# EAGLE library part B59(57-02)F4-03-1212-C12 (library Domino)
Dual Port RJ45 Modular Jack with Integrated Magnetics, 4 LEDs, 4 Shield Tabs
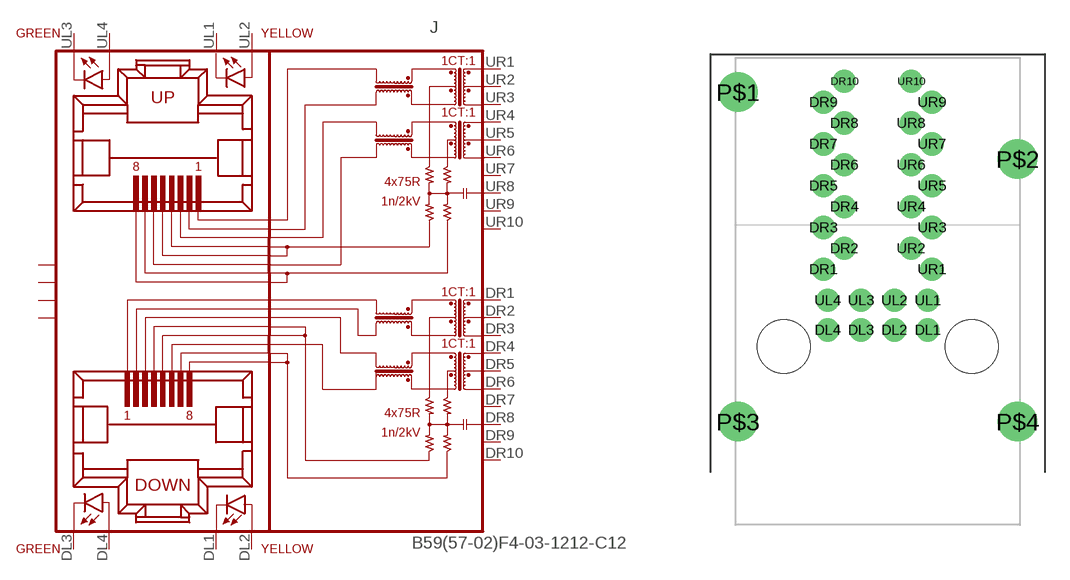
[diagram p32: symbol with the pads of B59(57-02)F4-03-1212-C12; footprint B59(57-02)F4-03-1212-C12]

Designator prefix J

## B59(57-02)F4-03-1212-C12  [B59(57-02)F4-03-1212-C12]
DL1  DL1  pas
DL2  DL2  pas
DL3  DL3  pas
DL4  DL4  pas
DR1  DR1  pas
DR2  DR2  pas
DR3  DR3  pas
DR4  DR4  pas
DR5  DR5  pas
DR6  DR6  pas
DR7  DR7  nc
DR8  DR8  pwr
DR9  DR9  nc
DR10  DR10  nc
P$1  SHIELD  pwr
P$2  SHIELD  pwr
P$3  SHIELD  pwr
P$4  SHIELD  pwr
UL1  UL1  pas
UL2  UL2  pas
UL3  UL3  pas
UL4  UL4  pas
UR1  UR1  pas
UR2  UR2  pas
UR3  UR3  pas
UR4  UR4  pas
UR5  UR5  pas
UR6  UR6  pas
UR7  UR7  nc
UR8  UR8  pwr
UR9  UR9  nc
UR10  UR10  nc

## Footprint B59(57-02)F4-03-1212-C12 (pad centres in mm)
Dual RJ45 Modular Connector with 10/100Base-TX Transformer and LED
drill 0.9: DL1 3.045,1.01; DL2 1.015,1.01; DL3 -1.015,1.01; DL4 -3.045,1.01; DR1 -3.3,4.7; DR2 -2.03,5.97; DR3 -3.3,7.24; DR4 -2.03,8.51; DR5 -3.3,9.78; DR6 -2.03,11.05; DR7 -3.3,12.32; DR8 -2.03,13.59; DR9 -3.3,14.86; DR10 -2.03,16.13; UL1 3.045,2.81; UL2 1.015,2.81; UL3 -1.015,2.81; UL4 -3.045,2.81; UR1 3.3,4.7; UR2 2.03,5.97; UR3 3.3,7.24; UR4 2.03,8.51; UR5 3.3,9.78; UR6 2.03,11.05; UR7 3.3,12.32; UR8 2.03,13.59; UR9 3.3,14.86; UR10 2.03,16.13
drill 1.6: P$1 -8.51,15.47; P$2 8.51,11.4; P$3 -8.51,-4.57; P$4 8.51,-4.57
hole 3.25 at 5.715,0
hole 3.25 at -5.715,0